# EAGLE library part MC33926-SINGLE-BO (library s3-pilot2-lbr)
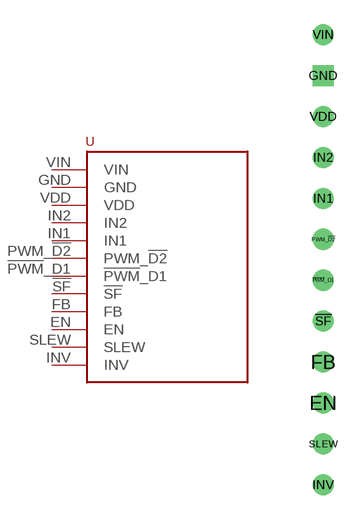
[diagram p2: symbol with the pads of MC33926-SINGLE-BO; footprint MC33926-SINGLE-BO]

Designator prefix -

## MC33926-SINGLE-BO  [MC33926-SINGLE-BO]
!PWM!_D1  !PWM!_D1  in
!SF  !SF  out
EN  EN  in
FB  FB  out
GND  GND  pwr
IN1  IN1  in
IN2  IN2  in
INV  INV  in
PWM_!D2  PWM_!D2  in
SLEW  SLEW  in
VDD  VDD  pwr
VIN  VIN  nc

## Footprint MC33926-SINGLE-BO (pad centres in mm)
drill 0.8: !PWM!_D1 -5.08,-8.89; !SF -5.08,-11.43; EN -5.08,-16.51; FB -5.08,-13.97; IN1 -5.08,-3.81; IN2 -5.08,-1.27; INV -5.08,-21.59; PWM_!D2 -5.08,-6.35; SLEW -5.08,-19.05; VDD -5.08,1.27; VIN -5.08,6.35
drill 0.8 square: GND -5.08,3.81